# EAGLE library part ATTINY13 (library ATTiny-SOIC8)
ATTINY13
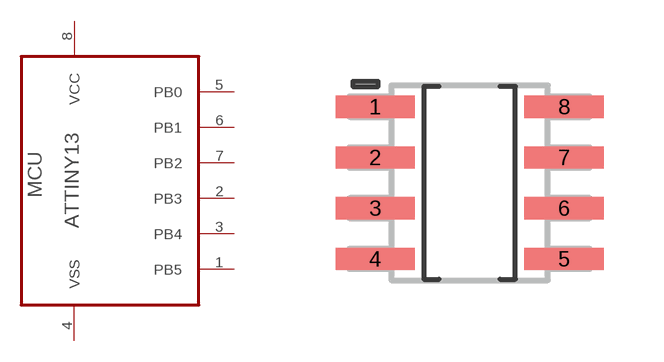
[diagram p0: symbol with the pads of SOIC127P600X175-8N; footprint SOIC127P600X175-8N]

Designator prefix MCU

## ATTINY13 (PACKAGE: SOIC-8)  [SOIC127P600X175-8N]
1  PB5
2  PB3
3  PB4
4  VSS  pwr
5  PB0
6  PB1
7  PB2
8  VCC  pwr

## Footprint SOIC127P600X175-8N (pad centres in mm)
smd 1.981 x 0.559: 1 -2.362,1.905; 2 -2.362,0.635; 3 -2.362,-0.635; 4 -2.362,-1.905; 5 2.362,-1.905; 6 2.362,-0.635; 7 2.362,0.635; 8 2.362,1.905